# Altium integrated library Infineon RF & Wireless Control.IntLib: 329 symbols (part 1 of 11)
Pins are listed as number, name and electrical type; pins without a type are passive.

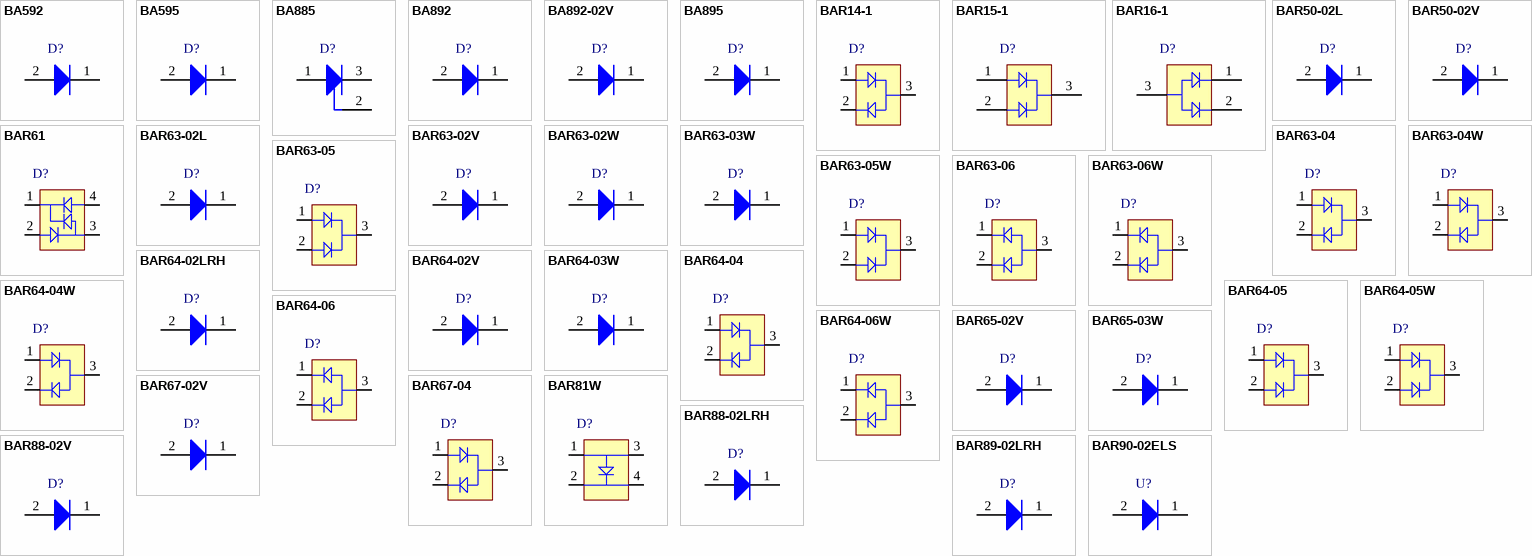
[diagram p0: symbols BA592 to BAR90-02ELS]

## BA592
designator D?
Single Silicon RF Switching Diode, 100 mA IF Max, 0.36 Ohm rF, SOD323, Green; Manufacturer: Infineon; PartNumber: BA592; CT (max): 1.4 pF; Green: yes; IF (max): 100 mA; Trr (typ): 120 ns; DatasheetVersion: Jul-2011; PackageReference: SOD323; PackageDescription: 2-Pin Small Outline Diode Package, 1.25 x 1.7 mm Body; Supplier 1: Mouser; Supplier Part Number 1: N/A; Supplier 2: Farnell; Supplier Part Number 2: 1095636RL; Configuration: Single; rF (typ): 0.36 Ohm; Mounting Technology: Surface Mount; ComponentLink1Description: Manufacturer URL; ComponentLink1URL: http://www.infineon.com/; ComponentLink2Description: Datasheet; ComponentLink2URL: http://www.infineon.com/dgdl/ba592_ba892series.pdf?folderId=db3a304314dca3890114fde87a7a09ec&fileId=db3a304314dca3890114fde8f46109ed; ComponentLink3Description: Package Specification; ComponentLink3URL: http://www.infineon.com/dgdl/SOD323-Package_Overview.pdf?folderId=db3a30431936bc4b011952aab84f3bbe&fileId=db3a30431936bc4b011952beed653be3
footprint INF-SOD323_V (SOD, 2-Leads, Body 1.7x1.25 mm)
pins: 1 K, 2 A

## BA595
designator D?
Single Silicon PIN Diode, 50 mA IF Max, 4.5 Ohm rF, SOD323, Green; Manufacturer: Infineon; PartNumber: BA595; CT (max): 0.6 pF; Green: yes; IF (max): 50 mA; rF (typ): 4.5 Ohm; Trr (typ): 1,600 ns; DatasheetVersion: Jul-2011; PackageReference: SOD323; PackageDescription: 2-Pin Small Outline Diode Package, 1.25 x 1.7 mm Body; Supplier 1: Mouser; Supplier Part Number 1: N/A; Supplier 2: Farnell; Supplier Part Number 2: 1095637; Supplier 3: Farnell; Supplier Part Number 3: 1095637RL; Configuration: Single; Mounting Technology: Surface Mount; ComponentLink1Description: Manufacturer URL; ComponentLink1URL: http://www.infineon.com/; ComponentLink2Description: Datasheet; ComponentLink2URL: http://www.infineon.com/dgdl/ba595_ba885_ba895series.pdf?folderId=db3a304314dca3890114fde87a7a09ec&fileId=db3a304314dca3890114fdf44fbb09fe&location=en.Products.RF.RF_PIN_Diodes.Band_Switching_and_RF_Attenuation.DATASHEET.ba595_ba885_ba895series.pdf; ComponentLink3Description: Package Specification; ComponentLink3URL: http://www.infineon.com/dgdl/SOD323-Package_Overview.pdf?folderId=db3a30431936bc4b011952aab84f3bbe&fileId=db3a30431936bc4b011952beed653be3
footprint INF-SOD323_V (SOD, 2-Leads, Body 1.7x1.25 mm)
pins: 1 K, 2 A

## BA885
designator D?
Single Silicon PIN Diode, 50 mA IF Max, 4.5 Ohm rF, SOT23, Green; Manufacturer: Infineon; PartNumber: BA885; CT (max): 0.6 pF; Green: yes; IF (max): 50 mA; rF (typ): 4.5 Ohm; Trr (typ): 1,600 ns; DatasheetVersion: Jul-2011; PackageReference: SOT23; PackageDescription: 3-Pin Small Outline Transistor Package, 1.3 x 2.9 mm Body, 0.95 mm Pitch; Supplier 1: Mouser; Supplier Part Number 1: N/A; Configuration: Single; Mounting Technology: Surface Mount; ComponentLink1Description: Manufacturer URL; ComponentLink1URL: http://www.infineon.com/; ComponentLink2Description: Datasheet; ComponentLink2URL: http://www.infineon.com/dgdl/ba595_ba885_ba895series.pdf?folderId=db3a304314dca3890114fde87a7a09ec&fileId=db3a304314dca3890114fdf44fbb09fe&location=en.Products.RF.RF_PIN_Diodes.Band_Switching_and_RF_Attenuation.DATASHEET.ba595_ba885_ba895series.pdf; ComponentLink3Description: Package Specification; ComponentLink3URL: http://www.infineon.com/dgdl/SOT23-Package_Overview.pdf?folderId=db3a30431936bc4b0119532290053c66&fileId=db3a30431936bc4b0119533468123c85
footprint INF-SOT23_N (SOT23, 3-Leads, Body 2.9x1.3 mm, Pitch 0.95 mm, IPC Medium Density)
footprint INF-SOT23_L (SOT23, 3-Leads, Body 2.9x1.3 mm, Pitch 0.95 mm, IPC High Density)
footprint INF-SOT23_M (SOT23, 3-Leads, Body 2.9x1.3 mm, Pitch 0.95 mm, IPC Low Density)
pins: 1 A, 2 NC, 3 K

## BA892
designator D?
Single Silicon RF Switching Diode, 100 mA IF Max, 0.36 Ohm rF, SCD80, Green; Manufacturer: Infineon; PartNumber: BA892; CT (max): 1.4 pF; Green: yes; IF (max): 100 mA; Trr (typ): 120 ns; DatasheetVersion: Jul-2011; PackageReference: SCD80; PackageDescription: 2-Pin Semiconductor Diode Package, 0.8 x 1.3 mm Body; Supplier 1: Mouser; Supplier Part Number 1: N/A; Configuration: Single; Halogen-free: yes; rF (typ): 0.36 Ohm; Mounting Technology: Surface Mount; ComponentLink1Description: Manufacturer URL; ComponentLink1URL: http://www.infineon.com/; ComponentLink2Description: Datasheet; ComponentLink2URL: http://www.infineon.com/dgdl/ba592_ba892series.pdf?folderId=db3a304314dca3890114fde87a7a09ec&fileId=db3a304314dca3890114fde8f46109ed&location=en.Products.RF.RF_PIN_Diodes.Band_Switching_and_RF_Attenuation.DATASHEET.ba592_ba892series.pdf; ComponentLink3Description: Package Specification; ComponentLink3URL: http://www.infineon.com/dgdl/SCD80-Package_Overview.pdf?folderId=db3a30431936bc4b0119526bd5c83b5c&fileId=db3a30431936bc4b0119528065a43b7a
footprint INF-SCD80_V (SCD80, 2-Leads, Body 0.8x1.3 mm)
pins: 1 K, 2 A

## BA892-02V
designator D?
Single Silicon RF Switching Diode, 100 mA IF Max, 0.36 Ohm rF, SC79, Green; Manufacturer: Infineon; PartNumber: BA892-02V; CT (max): 1.4 pF; Green: yes; IF (max): 100 mA; Trr (typ): 120 ns; DatasheetVersion: Jul-2011; PackageReference: SC79; PackageDescription: 2-Pin Semiconductor Package, 0.8 x 1.2 mm Body; Supplier 1: Mouser; Supplier Part Number 1: N/A; Supplier 2: Farnell; Supplier Part Number 2: 1095639RL; Configuration: Single; Halogen-free: yes; rF (typ): 0.36 Ohm; Mounting Technology: Surface Mount; ComponentLink1Description: Manufacturer URL; ComponentLink1URL: http://www.infineon.com/; ComponentLink2Description: Datasheet; ComponentLink2URL: http://www.infineon.com/dgdl/ba592_ba892series.pdf?folderId=db3a304314dca3890114fde87a7a09ec&fileId=db3a304314dca3890114fde8f46109ed&location=en.Products.RF.RF_PIN_Diodes.Band_Switching_and_RF_Attenuation.DATASHEET.ba592_ba892series.pdf; ComponentLink3Description: Package Specification; ComponentLink3URL: http://www.infineon.com/dgdl/SC79-Package_Overview.pdf?folderId=db3a30431936bc4b011951fbddb03b15&fileId=db3a30431936bc4b01195226fe583b41
footprint INF-SC79_V (SC79, 2-Leads, Body 1.2x0.8 mm)
pins: 1 K, 2 A

## BA895
designator D?
Single Silicon PIN Diode, 50 mA IF Max, 4.5 Ohm rF, SCD80, Green; Manufacturer: Infineon; PartNumber: BA895; CT (max): 0.6 pF; Green: yes; IF (max): 50 mA; rF (typ): 4.5 Ohm; Trr (typ): 1,600 ns; DatasheetVersion: Jul-2011; PackageReference: SCD80; PackageDescription: 2-Pin Semiconductor Diode Package, 0.8 x 1.3 mm Body; Supplier 1: Mouser; Supplier Part Number 1: N/A; Configuration: Single; Halogen-free: yes; Mounting Technology: Surface Mount; ComponentLink1Description: Manufacturer URL; ComponentLink1URL: http://www.infineon.com/; ComponentLink2Description: Datasheet; ComponentLink2URL: http://www.infineon.com/dgdl/ba595_ba885_ba895series.pdf?folderId=db3a304314dca3890114fde87a7a09ec&fileId=db3a304314dca3890114fdf44fbb09fe&location=en.Products.RF.RF_PIN_Diodes.Band_Switching_and_RF_Attenuation.DATASHEET.ba595_ba885_ba895series.pdf; ComponentLink3Description: Package Specification; ComponentLink3URL: http://www.infineon.com/dgdl/SCD80-Package_Overview.pdf?folderId=db3a30431936bc4b0119526bd5c83b5c&fileId=db3a30431936bc4b0119528065a43b7a
footprint INF-SCD80_V (SCD80, 2-Leads, Body 0.8x1.3 mm)
pins: 1 K, 2 A

## BAR14-1
designator D?
Dual Silicon PIN Diode, 140 mA IF Max, 7 Ohm rF, SOT23, Green; Manufacturer: Infineon; PartNumber: BAR14-1; CT (max): 0.5 pF; Green: yes; IF (max): 140 mA; rF (typ): 7 Ohm; Trr (typ): 1,000 ns; DatasheetVersion: Apr-2007; PackageReference: SOT23; PackageDescription: 3-Pin Small Outline Transistor Package, 1.3 x 2.9 mm Body, 0.95 mm Pitch; Supplier 1: Mouser; Supplier Part Number 1: N/A; Supplier 2: Newark; Supplier Part Number 2: 96K6732; Supplier 3: Farnell; Supplier Part Number 3: 1095642RL; Supplier 4: Farnell; Supplier Part Number 4: 1095642; Configuration: Dual; Mounting Technology: Surface Mount; ComponentLink1Description: Manufacturer URL; ComponentLink1URL: http://www.infineon.com/; ComponentLink2Description: Datasheet; ComponentLink2URL: http://www.infineon.com/dgdl/bar14_bar15_bar16_bar61series.pdf?folderId=db3a304314dca3890114fde87a7a09ec&fileId=db3a304314dca3890114fe4104c70a88&location=en.Products.RF.RF_PIN_Diodes.Band_Switching_and_RF_Attenuation.DATASHEET.bar14_bar15_bar16_bar61series.pdf; ComponentLink3Description: Package Specification; ComponentLink3URL: http://www.infineon.com/dgdl/SOT23-Package_Overview.pdf?folderId=db3a30431936bc4b0119532290053c66&fileId=db3a30431936bc4b0119533468123c85
footprint INF-SOT23_N (SOT23, 3-Leads, Body 2.9x1.3 mm, Pitch 0.95 mm, IPC Medium Density)
footprint INF-SOT23_L (SOT23, 3-Leads, Body 2.9x1.3 mm, Pitch 0.95 mm, IPC High Density)
footprint INF-SOT23_M (SOT23, 3-Leads, Body 2.9x1.3 mm, Pitch 0.95 mm, IPC Low Density)
pins: 1 A1, 2 K2, 3 C

## BAR15-1
designator D?
Dual Silicon PIN Diode, 140 mA IF Max, 7 Ohm rF, SOT23, Green; Manufacturer: Infineon; PartNumber: BAR15-1; CT (max): 0.5 pF; Green: yes; IF (max): 140 mA; rF (typ): 7 Ohm; Trr (typ): 1,000 ns; DatasheetVersion: Apr-2007; PackageReference: SOT23; PackageDescription: 3-Pin Small Outline Transistor Package, 1.3 x 2.9 mm Body, 0.95 mm Pitch; Supplier 1: Newark; Supplier Part Number 1: 96K6733; Supplier 2: Farnell; Supplier Part Number 2: 1095643; Supplier 3: Farnell; Supplier Part Number 3: 1095643RL; Configuration: Dual; Mounting Technology: Surface Mount; ComponentLink1Description: Manufacturer URL; ComponentLink1URL: http://www.infineon.com/; ComponentLink2Description: Datasheet; ComponentLink2URL: http://www.infineon.com/dgdl/bar14_bar15_bar16_bar61series.pdf?folderId=db3a304314dca3890114fde87a7a09ec&fileId=db3a304314dca3890114fe4104c70a88&location=en.Products.RF.RF_PIN_Diodes.Band_Switching_and_RF_Attenuation.DATASHEET.bar14_bar15_bar16_bar61series.pdf; ComponentLink3Description: Package Specification; ComponentLink3URL: http://www.infineon.com/dgdl/SOT23-Package_Overview.pdf?folderId=db3a30431936bc4b0119532290053c66&fileId=db3a30431936bc4b0119533468123c85
footprint INF-SOT23_N (SOT23, 3-Leads, Body 2.9x1.3 mm, Pitch 0.95 mm, IPC Medium Density)
footprint INF-SOT23_L (SOT23, 3-Leads, Body 2.9x1.3 mm, Pitch 0.95 mm, IPC High Density)
footprint INF-SOT23_M (SOT23, 3-Leads, Body 2.9x1.3 mm, Pitch 0.95 mm, IPC Low Density)
pins: 1 A1, 2 A2, 3 K

## BAR16-1
designator D?
Dual Silicon PIN Diode, 140 mA IF Max, 7 Ohm rF, SOT23, Green; Manufacturer: Infineon; PartNumber: BAR16-1; CT (max): 0.5 pF; Green: yes; IF (max): 140 mA; rF (typ): 7 Ohm; Trr (typ): 1,000 ns; DatasheetVersion: Apr-2007; PackageReference: SOT23; PackageDescription: 3-Pin Small Outline Transistor Package, 1.3 x 2.9 mm Body, 0.95 mm Pitch; Supplier 1: Mouser; Supplier Part Number 1: N/A; Supplier 2: Farnell; Supplier Part Number 2: 1095644; Supplier 3: Farnell; Supplier Part Number 3: 1095644RL; Configuration: Dual; Mounting Technology: Surface Mount; ComponentLink1Description: Manufacturer URL; ComponentLink1URL: http://www.infineon.com/; ComponentLink2Description: Datasheet; ComponentLink2URL: http://www.infineon.com/dgdl/bar14_bar15_bar16_bar61series.pdf?folderId=db3a304314dca3890114fde87a7a09ec&fileId=db3a304314dca3890114fe4104c70a88&location=en.Products.RF.RF_PIN_Diodes.Band_Switching_and_RF_Attenuation.DATASHEET.bar14_bar15_bar16_bar61series.pdf; ComponentLink3Description: Package Specification; ComponentLink3URL: http://www.infineon.com/dgdl/SOT23-Package_Overview.pdf?folderId=db3a30431936bc4b0119532290053c66&fileId=db3a30431936bc4b0119533468123c85
footprint INF-SOT23_N (SOT23, 3-Leads, Body 2.9x1.3 mm, Pitch 0.95 mm, IPC Medium Density)
footprint INF-SOT23_L (SOT23, 3-Leads, Body 2.9x1.3 mm, Pitch 0.95 mm, IPC High Density)
footprint INF-SOT23_M (SOT23, 3-Leads, Body 2.9x1.3 mm, Pitch 0.95 mm, IPC Low Density)
pins: 1 K1, 2 K2, 3 A

## BAR50-02L
designator D?
Silicon PIN Diode, TSLP-2-1, Green; Manufacturer: Infineon; PartNumber: BAR50-02L; Green: TRUE; PackageReference: TSLP-2-1; PackageDescription: 2-Pin Thin Small Leadless Package, 0.6 x 1 mm Body; Supplier 1: Mouser; Supplier Part Number 1: N/A; Halogen-free: TRUE; Mounting Technology: Surface Mount; ComponentLink1Description: Manufacturer URL; ComponentLink1URL: http://www.infineon.com/; ComponentLink2Description: Datasheet; ComponentLink2URL: http://www.infineon.com/dgdl/bar50series.pdf?folderId=db3a304314dca3890114fea780a30a91&fileId=db3a304314dca3890114fea7dd410a92&location=en.Products.RF.RF_PIN_Diodes.Antenna_Switch.DATASHEET.bar50series.pdf; ComponentLink3Description: Package Specification; ComponentLink3URL: http://www.infineon.com/dgdl/TSLP-2-1-Package_Overview.pdf?folderId=db3a30431936bc4b011956a23bb2377c&fileId=db3a30431936bc4b011956b3e8c13795
footprint INF-TSLP-2-1_N (Chip2PinSM, 2-Leads, Body 1x0.6 mm, Pitch 0.65 mm, IPC Medium Density)
footprint INF-TSLP-2-1_L (Chip2PinSM, 2-Leads, Body 1x0.6 mm, Pitch 0.65 mm, IPC High Density)
footprint INF-TSLP-2-1_M (Chip2PinSM, 2-Leads, Body 1x0.6 mm, Pitch 0.65 mm, IPC Low Density)
pins: 1 K, 2 A

## BAR50-02V
designator D?
Single Silicon PIN Diode, 100 mA IF Max, 3 Ohm rF, SC79, Green; Manufacturer: Infineon; PartNumber: BAR50-02V; CT (max): 0.5 pF; Green: yes; IF (max): 100 mA; rF (typ): 3 Ohm; Trr (typ): 1,100 ns; DatasheetVersion: Jul-2011; PackageReference: SC79; PackageDescription: 2-Pin Semiconductor Package, 0.8 x 1.2 mm Body; Supplier 1: Mouser; Supplier Part Number 1: N/A; Supplier 2: Newark; Supplier Part Number 2: 96K6735; Supplier 3: Farnell; Supplier Part Number 3: 1095645RL; Supplier 4: Farnell; Supplier Part Number 4: 1095645; Configuration: Single; Halogen-free: yes; Mounting Technology: Surface Mount; ComponentLink1Description: Manufacturer URL; ComponentLink1URL: http://www.infineon.com/; ComponentLink2Description: Datasheet; ComponentLink2URL: http://www.infineon.com/dgdl/bar50series.pdf?folderId=db3a304314dca3890114fea780a30a91&fileId=db3a304314dca3890114fea7dd410a92&location=en.Products.RF.RF_PIN_Diodes.Antenna_Switch.DATASHEET.bar50series.pdf; ComponentLink3Description: Package Specification; ComponentLink3URL: http://www.infineon.com/dgdl/SC79-Package_Overview.pdf?folderId=db3a30431936bc4b011951fbddb03b15&fileId=db3a30431936bc4b01195226fe583b41
footprint INF-SC79_V (SC79, 2-Leads, Body 1.2x0.8 mm)
pins: 1 K, 2 A

## BAR61
designator D?
Single Silicon PIN Diode, 140 mA IF Max, 7 Ohm rF, SOT143-4-1, Green; Manufacturer: Infineon; PartNumber: BAR61; CT (max): 0.5 pF; Green: yes; IF (max): 140 mA; rF (typ): 7 Ohm; Trr (typ): 1,000 ns; DatasheetVersion: Apr-2007; PackageReference: SOT143-4-1; PackageDescription: 4-Pin Small Outline Transistor Package, 1.3 x 2.9 mm Body; Supplier 1: Mouser; Supplier Part Number 1: N/A; Configuration: Single; Mounting Technology: Surface Mount; ComponentLink1Description: Manufacturer URL; ComponentLink1URL: http://www.infineon.com/; ComponentLink2Description: Datasheet; ComponentLink2URL: http://www.infineon.com/dgdl/bar14_bar15_bar16_bar61series.pdf?folderId=db3a304314dca3890114fde87a7a09ec&fileId=db3a304314dca3890114fe4104c70a88&location=en.Products.RF.RF_PIN_Diodes.Band_Switching_and_RF_Attenuation.DATASHEET.bar14_bar15_bar16_bar61series.pdf; ComponentLink3Description: Package Specification; ComponentLink3URL: http://www.infineon.com/dgdl/SOT143-Package_Overview.pdf?folderId=db3a30431936bc4b011952ce8b1b3bed&fileId=db3a30431936bc4b011952df42203c0c
footprint INF-SOT143-4-1_V (SOT143, 4-Leads, Body 2.9x1.3 mm)
pins: 1 K, 2 A3, 3 C, 4 A1

## BAR63-02L
designator D?
Single Silicon PIN Diode, 100 mA IF Max, 1 Ohm rF, TSLP-2-1, Green; Manufacturer: Infineon; PartNumber: BAR63-02L; CT (max): 0.3 pF; Green: yes; IF (max): 100 mA; rF (typ): 1.0 Ohm; Trr (typ): 75 ns; DatasheetVersion: Jul-2011; PackageReference: TSLP-2-1; PackageDescription: 2-Pin Thin Small Leadless Package, 0.6 x 1 mm Body; Supplier 1: Mouser; Supplier Part Number 1: N/A; Configuration: Single; Halogen-free: yes; Mounting Technology: Surface Mount; ComponentLink1Description: Manufacturer URL; ComponentLink1URL: http://www.infineon.com/; ComponentLink2Description: Datasheet; ComponentLink2URL: http://www.infineon.com/dgdl/bar63series.pdf?folderId=db3a304314dca3890114fea780a30a91&fileId=db3a304314dca3890114fead23dc0a93&location=en.Products.RF.RF_PIN_Diodes.Antenna_Switch.DATASHEET.bar63series.pdf; ComponentLink3Description: Package Specification; ComponentLink3URL: http://www.infineon.com/dgdl/TSLP-2-1-Package_Overview.pdf?folderId=db3a30431936bc4b011956a23bb2377c&fileId=db3a30431936bc4b011956b3e8c13795
footprint INF-TSLP-2-1_N (Chip2PinSM, 2-Leads, Body 1x0.6 mm, Pitch 0.65 mm, IPC Medium Density)
footprint INF-TSLP-2-1_L (Chip2PinSM, 2-Leads, Body 1x0.6 mm, Pitch 0.65 mm, IPC High Density)
footprint INF-TSLP-2-1_M (Chip2PinSM, 2-Leads, Body 1x0.6 mm, Pitch 0.65 mm, IPC Low Density)
pins: 1 K, 2 A

## BAR63-02V
designator D?
Single Silicon PIN Diode, 100 mA IF Max, 1 Ohm rF, SC79, Green; Manufacturer: Infineon; PartNumber: BAR63-02V; CT (max): 0.3 pF; Green: yes; IF (max): 100 mA; rF (typ): 1.0 Ohm; Trr (typ): 75 ns; DatasheetVersion: Jul-2011; PackageReference: SC79; PackageDescription: 2-Pin Semiconductor Package, 0.8 x 1.2 mm Body; Supplier 1: Mouser; Supplier Part Number 1: N/A; Supplier 2: Farnell; Supplier Part Number 2: 1095647RL; Configuration: Single; Halogen-free: yes; Mounting Technology: Surface Mount; ComponentLink1Description: Manufacturer URL; ComponentLink1URL: http://www.infineon.com/; ComponentLink2Description: Datasheet; ComponentLink2URL: http://www.infineon.com/dgdl/bar63series.pdf?folderId=db3a304314dca3890114fea780a30a91&fileId=db3a304314dca3890114fead23dc0a93&location=en.Products.RF.RF_PIN_Diodes.Antenna_Switch.DATASHEET.bar63series.pdf; ComponentLink3Description: Package Specification; ComponentLink3URL: http://www.infineon.com/dgdl/SC79-Package_Overview.pdf?folderId=db3a30431936bc4b011951fbddb03b15&fileId=db3a30431936bc4b01195226fe583b41
footprint INF-SC79_V (SC79, 2-Leads, Body 1.2x0.8 mm)
pins: 1 K, 2 A

## BAR63-02W
designator D?
Single Silicon PIN Diode, 100 mA IF Max, 1 Ohm rF, SCD80, Green; Manufacturer: Infineon; PartNumber: BAR63-02W; CT (max): 0.3 pF; Green: yes; IF (max): 100 mA; rF (typ): 1 Ohm; Trr (typ): 75 ns; DatasheetVersion: Jul-2011; PackageReference: SCD80; PackageDescription: 2-Pin Semiconductor Diode Package, 0.8 x 1.3 mm Body; Supplier 1: Mouser; Supplier Part Number 1: N/A; Configuration: Single; Halogen-free: yes; Mounting Technology: Surface Mount; ComponentLink1Description: Manufacturer URL; ComponentLink1URL: http://www.infineon.com/; ComponentLink2Description: Datasheet; ComponentLink2URL: http://www.infineon.com/dgdl/bar63series.pdf?folderId=db3a304314dca3890114fea780a30a91&fileId=db3a304314dca3890114fead23dc0a93&location=en.Products.RF.RF_PIN_Diodes.Antenna_Switch.DATASHEET.bar63series.pdf; ComponentLink3Description: Package Specification; ComponentLink3URL: http://www.infineon.com/dgdl/SCD80-Package_Overview.pdf?folderId=db3a30431936bc4b0119526bd5c83b5c&fileId=db3a30431936bc4b0119528065a43b7a
footprint INF-SCD80_V (SCD80, 2-Leads, Body 0.8x1.3 mm)
pins: 1 K, 2 A

## BAR63-03W
designator D?
Single Silicon PIN Diode, 100 mA IF Max, 1 Ohm rF, SOD323, Green; Manufacturer: Infineon; PartNumber: BAR63-03W; CT (max): 0.3 pF; Green: yes; IF (max): 100 mA; rF (typ): 1 Ohm; Trr (typ): 75 ns; DatasheetVersion: Jul-2011; PackageReference: SOD323; PackageDescription: 2-Pin Small Outline Diode Package, 1.25 x 1.7 mm Body; Supplier 1: Mouser; Supplier Part Number 1: N/A; Configuration: Single; Mounting Technology: Surface Mount; ComponentLink1Description: Manufacturer URL; ComponentLink1URL: http://www.infineon.com/; ComponentLink2Description: Datasheet; ComponentLink2URL: http://www.infineon.com/dgdl/bar63series.pdf?folderId=db3a304314dca3890114fea780a30a91&fileId=db3a304314dca3890114fead23dc0a93&location=en.Products.RF.RF_PIN_Diodes.Antenna_Switch.DATASHEET.bar63series.pdf; ComponentLink3Description: Package Specification; ComponentLink3URL: http://www.infineon.com/dgdl/SOD323-Package_Overview.pdf?folderId=db3a30431936bc4b011952aab84f3bbe&fileId=db3a30431936bc4b011952beed653be3
footprint INF-SOD323_V (SOD, 2-Leads, Body 1.7x1.25 mm)
pins: 1 K, 2 A

## BAR63-04
designator D?
Dual Silicon PIN Diode, 100 mA IF Max, 1 Ohm rF, SOT23, Green; Manufacturer: Infineon; PartNumber: BAR63-04; CT (max): 0.3 pF; Green: yes; IF (max): 100 mA; rF (typ): 1 Ohm; Trr (typ): 75 ns; DatasheetVersion: Jul-2011; PackageReference: SOT23; PackageDescription: 3-Pin Small Outline Transistor Package, 1.3 x 2.9 mm Body, 0.95 mm Pitch; Supplier 1: Mouser; Supplier Part Number 1: N/A; Configuration: Dual; Mounting Technology: Surface Mount; ComponentLink1Description: Manufacturer URL; ComponentLink1URL: http://www.infineon.com/; ComponentLink2Description: Datasheet; ComponentLink2URL: http://www.infineon.com/dgdl/bar63series.pdf?folderId=db3a304314dca3890114fea780a30a91&fileId=db3a304314dca3890114fead23dc0a93&location=en.Products.RF.RF_PIN_Diodes.Antenna_Switch.DATASHEET.bar63series.pdf; ComponentLink3Description: Package Specification; ComponentLink3URL: http://www.infineon.com/dgdl/SOT23-Package_Overview.pdf?folderId=db3a30431936bc4b0119532290053c66&fileId=db3a30431936bc4b0119533468123c85
footprint INF-SOT23_N (SOT23, 3-Leads, Body 2.9x1.3 mm, Pitch 0.95 mm, IPC Medium Density)
footprint INF-SOT23_L (SOT23, 3-Leads, Body 2.9x1.3 mm, Pitch 0.95 mm, IPC High Density)
footprint INF-SOT23_M (SOT23, 3-Leads, Body 2.9x1.3 mm, Pitch 0.95 mm, IPC Low Density)
pins: 1 A1, 2 K2, 3 C

## BAR63-04W
designator D?
Dual Silicon PIN Diode, 100 mA IF Max, 1 Ohm rF, SOT323, Green; Manufacturer: Infineon; PartNumber: BAR63-04W; CT (max): 0.3 pF; Green: yes; IF (max): 100 mA; rF (typ): 1 Ohm; Trr (typ): 75 ns; DatasheetVersion: Jul-2011; PackageReference: SOT323; PackageDescription: 3-Pin Small Outline Transistor Package, 1.25 x 2 mm Body, 0.65 mm Pitch; Supplier 1: Mouser; Supplier Part Number 1: N/A; Configuration: Dual; Halogen-free: yes; Mounting Technology: Surface Mount; ComponentLink1Description: Manufacturer URL; ComponentLink1URL: http://www.infineon.com/; ComponentLink2Description: Datasheet; ComponentLink2URL: http://www.infineon.com/dgdl/bar63series.pdf?folderId=db3a304314dca3890114fea780a30a91&fileId=db3a304314dca3890114fead23dc0a93&location=en.Products.RF.RF_PIN_Diodes.Antenna_Switch.DATASHEET.bar63series.pdf; ComponentLink3Description: Package Specification; ComponentLink3URL: http://www.infineon.com/dgdl/SOT323-Package_Overview.pdf?folderId=db3a30431936bc4b0119533e1dcb3c92&fileId=db3a30431936bc4b011953495f283cb1
footprint INF-SOT323_N (SOT23, 3-Leads, Body 2x1.25 mm, Pitch 0.65 mm, IPC Medium Density)
footprint INF-SOT323_L (SOT23, 3-Leads, Body 2x1.25 mm, Pitch 0.65 mm, IPC High Density)
footprint INF-SOT323_M (SOT23, 3-Leads, Body 2x1.25 mm, Pitch 0.65 mm, IPC Low Density)
pins: 1 A1, 2 K2, 3 C

## BAR63-05
designator D?
Dual Silicon PIN Diode, 100 mA IF Max, 1 Ohm rF, SOT23, Green; Manufacturer: Infineon; PartNumber: BAR63-05; CT (max): 0.3 pF; Green: yes; IF (max): 100 mA; rF (typ): 1 Ohm; Trr (typ): 75 ns; DatasheetVersion: Jul-2011; PackageReference: SOT23; PackageDescription: 3-Pin Small Outline Transistor Package, 1.3 x 2.9 mm Body, 0.95 mm Pitch; Supplier 1: Mouser; Supplier Part Number 1: N/A; Configuration: Dual; Mounting Technology: Surface Mount; ComponentLink1Description: Manufacturer URL; ComponentLink1URL: http://www.infineon.com/; ComponentLink2Description: Datasheet; ComponentLink2URL: http://www.infineon.com/dgdl/bar63series.pdf?folderId=db3a304314dca3890114fea780a30a91&fileId=db3a304314dca3890114fead23dc0a93&location=en.Products.RF.RF_PIN_Diodes.Antenna_Switch.DATASHEET.bar63series.pdf; ComponentLink3Description: Package Specification; ComponentLink3URL: http://www.infineon.com/dgdl/SOT23-Package_Overview.pdf?folderId=db3a30431936bc4b0119532290053c66&fileId=db3a30431936bc4b0119533468123c85
footprint INF-SOT23_N (SOT23, 3-Leads, Body 2.9x1.3 mm, Pitch 0.95 mm, IPC Medium Density)
footprint INF-SOT23_L (SOT23, 3-Leads, Body 2.9x1.3 mm, Pitch 0.95 mm, IPC High Density)
footprint INF-SOT23_M (SOT23, 3-Leads, Body 2.9x1.3 mm, Pitch 0.95 mm, IPC Low Density)
pins: 1 A1, 2 A2, 3 K

## BAR63-05W
designator D?
Dual Silicon PIN Diode, 100 mA IF Max, 1 Ohm rF, SOT323, Green; Manufacturer: Infineon; PartNumber: BAR63-05W; CT (max): 0.3 pF; Green: yes; IF (max): 100 mA; rF (typ): 1 Ohm; Trr (typ): 75 ns; DatasheetVersion: Jul-2011; PackageReference: SOT323; PackageDescription: 3-Pin Small Outline Transistor Package, 1.25 x 2 mm Body, 0.65 mm Pitch; Supplier 1: Mouser; Supplier Part Number 1: N/A; Configuration: Dual; Halogen-free: yes; Mounting Technology: Surface Mount; ComponentLink1Description: Manufacturer URL; ComponentLink1URL: http://www.infineon.com/; ComponentLink2Description: Datasheet; ComponentLink2URL: http://www.infineon.com/dgdl/bar63series.pdf?folderId=db3a304314dca3890114fea780a30a91&fileId=db3a304314dca3890114fead23dc0a93&location=en.Products.RF.RF_PIN_Diodes.Antenna_Switch.DATASHEET.bar63series.pdf; ComponentLink3Description: Package Specification; ComponentLink3URL: http://www.infineon.com/dgdl/SOT323-Package_Overview.pdf?folderId=db3a30431936bc4b0119533e1dcb3c92&fileId=db3a30431936bc4b011953495f283cb1
footprint INF-SOT323_N (SOT23, 3-Leads, Body 2x1.25 mm, Pitch 0.65 mm, IPC Medium Density)
footprint INF-SOT323_L (SOT23, 3-Leads, Body 2x1.25 mm, Pitch 0.65 mm, IPC High Density)
footprint INF-SOT323_M (SOT23, 3-Leads, Body 2x1.25 mm, Pitch 0.65 mm, IPC Low Density)
pins: 1 A1, 2 A2, 3 K

## BAR63-06
designator D?
Dual Silicon PIN Diode, 100 mA IF Max, 1 Ohm rF, SOT23, Green; Manufacturer: Infineon; PartNumber: BAR63-06; CT (max): 0.3 pF; Green: yes; IF (max): 100 mA; rF (typ): 1 Ohm; Trr (typ): 75 ns; DatasheetVersion: Jul-2011; PackageReference: SOT23; PackageDescription: 3-Pin Small Outline Transistor Package, 1.3 x 2.9 mm Body, 0.95 mm Pitch; Supplier 1: Mouser; Supplier Part Number 1: N/A; Configuration: Dual; Mounting Technology: Surface Mount; ComponentLink1Description: Manufacturer URL; ComponentLink1URL: http://www.infineon.com/; ComponentLink2Description: Datasheet; ComponentLink2URL: http://www.infineon.com/dgdl/bar63series.pdf?folderId=db3a304314dca3890114fea780a30a91&fileId=db3a304314dca3890114fead23dc0a93&location=en.Products.RF.RF_PIN_Diodes.Antenna_Switch.DATASHEET.bar63series.pdf; ComponentLink3Description: Package Specification; ComponentLink3URL: http://www.infineon.com/dgdl/SOT23-Package_Overview.pdf?folderId=db3a30431936bc4b0119532290053c66&fileId=db3a30431936bc4b0119533468123c85
footprint INF-SOT23_N (SOT23, 3-Leads, Body 2.9x1.3 mm, Pitch 0.95 mm, IPC Medium Density)
footprint INF-SOT23_L (SOT23, 3-Leads, Body 2.9x1.3 mm, Pitch 0.95 mm, IPC High Density)
footprint INF-SOT23_M (SOT23, 3-Leads, Body 2.9x1.3 mm, Pitch 0.95 mm, IPC Low Density)
pins: 1 K1, 2 K2, 3 A

## BAR63-06W
designator D?
Dual Silicon PIN Diode, 100 mA IF Max, 1 Ohm rF, SOT323, Green; Manufacturer: Infineon; PartNumber: BAR63-06W; CT (max): 0.3 pF; Green: yes; IF (max): 100 mA; rF (typ): 1 Ohm; Trr (typ): 75 ns; DatasheetVersion: Jul-2011; PackageReference: SOT323; PackageDescription: 3-Pin Small Outline Transistor Package, 1.25 x 2 mm Body, 0.65 mm Pitch; Supplier 1: Mouser; Supplier Part Number 1: N/A; Configuration: Dual; Halogen-free: yes; Mounting Technology: Surface Mount; ComponentLink1Description: Manufacturer URL; ComponentLink1URL: http://www.infineon.com/; ComponentLink2Description: Datasheet; ComponentLink2URL: http://www.infineon.com/dgdl/bar63series.pdf?folderId=db3a304314dca3890114fea780a30a91&fileId=db3a304314dca3890114fead23dc0a93&location=en.Products.RF.RF_PIN_Diodes.Antenna_Switch.DATASHEET.bar63series.pdf; ComponentLink3Description: Package Specification; ComponentLink3URL: http://www.infineon.com/dgdl/SOT323-Package_Overview.pdf?folderId=db3a30431936bc4b0119533e1dcb3c92&fileId=db3a30431936bc4b011953495f283cb1
footprint INF-SOT323_N (SOT23, 3-Leads, Body 2x1.25 mm, Pitch 0.65 mm, IPC Medium Density)
footprint INF-SOT323_L (SOT23, 3-Leads, Body 2x1.25 mm, Pitch 0.65 mm, IPC High Density)
footprint INF-SOT323_M (SOT23, 3-Leads, Body 2x1.25 mm, Pitch 0.65 mm, IPC Low Density)
pins: 1 K1, 2 K2, 3 A

## BAR64-02LRH
designator D?
Single Silicon PIN Diode, 100 mA IF Max, 2.1 Ohm rF, TSLP-2-7, Green; Manufacturer: Infineon; PartNumber: BAR64-02LRH; CT (max): 0.35 pF; Green: yes; IF (max): 100 mA; rF (typ): 2.1 Ohm; Trr (typ): 1,550 ns; DatasheetVersion: Jul-2011; PackageReference: TSLP-2-7; PackageDescription: 2-Pin Thin Small Leadless Package, 0.6 x 1 mm Body; Supplier 1: Mouser; Supplier Part Number 1: N/A; Configuration: Single; Halogen-free: yes; Mounting Technology: Surface Mount; ComponentLink1Description: Manufacturer URL; ComponentLink1URL: http://www.infineon.com/; ComponentLink2Description: Datasheet; ComponentLink2URL: http://www.infineon.com/dgdl/bar64series.pdf?folderId=db3a304314dca3890114fea780a30a91&fileId=db3a304314dca3890114fef8f4ca0aca&location=en.Products.RF.RF_PIN_Diodes.Antenna_Switch.DATASHEET.bar64series.pdf; ComponentLink3Description: Package Specification; ComponentLink3URL: http://www.infineon.com/dgdl/TSLP-2-7%2C-17-Package_Overview.pdf?folderId=db3a30431936bc4b011956dca02837a0&fileId=db3a30431936bc4b01195723a67f37c1
footprint INF-TSLP-2-7_N (Chip2PinSM, 2-Leads, Body 1x0.6 mm, Pitch 0.65 mm, IPC Medium Density)
footprint INF-TSLP-2-7_L (Chip2PinSM, 2-Leads, Body 1x0.6 mm, Pitch 0.65 mm, IPC High Density)
footprint INF-TSLP-2-7_M (Chip2PinSM, 2-Leads, Body 1x0.6 mm, Pitch 0.65 mm, IPC Low Density)
pins: 1 K, 2 A

## BAR64-02V
designator D?
Single Silicon PIN Diode, 100 mA IF Max, 2.1 Ohm rF, SC79, Green; Manufacturer: Infineon; PartNumber: BAR64-02V; CT (max): 0.35 pF; Green: yes; IF (max): 100 mA; rF (typ): 2.1 Ohm; Trr (typ): 1,550 ns; DatasheetVersion: Jul-2011; PackageReference: SC79; PackageDescription: 2-Pin Semiconductor Package, 0.8 x 1.2 mm Body; Supplier 1: Mouser; Supplier Part Number 1: N/A; Supplier 2: Farnell; Supplier Part Number 2: 1095648RL; Configuration: Single; Halogen-free: yes; Mounting Technology: Surface Mount; ComponentLink1Description: Manufacturer URL; ComponentLink1URL: http://www.infineon.com/; ComponentLink2Description: Datasheet; ComponentLink2URL: http://www.infineon.com/dgdl/bar64series.pdf?folderId=db3a304314dca3890114fea780a30a91&fileId=db3a304314dca3890114fef8f4ca0aca&location=en.Products.RF.RF_PIN_Diodes.Antenna_Switch.DATASHEET.bar64series.pdf; ComponentLink3Description: Package Specification; ComponentLink3URL: http://www.infineon.com/dgdl/SC79-Package_Overview.pdf?folderId=db3a30431936bc4b011951fbddb03b15&fileId=db3a30431936bc4b01195226fe583b41
footprint INF-SC79_V (SC79, 2-Leads, Body 1.2x0.8 mm)
pins: 1 K, 2 A

## BAR64-03W
designator D?
Single Silicon PIN Diode, 100 mA IF Max, 2.1 Ohm rF, SOD323, Green; Manufacturer: Infineon; PartNumber: BAR64-03W; CT (max): 0.35 pF; Green: yes; IF (max): 100 mA; rF (typ): 2.1 Ohm; Trr (typ): 1,550 ns; DatasheetVersion: Jul-2011; PackageReference: SOD323; PackageDescription: 2-Pin Small Outline Diode Package, 1.25 x 1.7 mm Body; Supplier 1: Mouser; Supplier Part Number 1: N/A; Configuration: Single; Mounting Technology: Surface Mount; ComponentLink1Description: Manufacturer URL; ComponentLink1URL: http://www.infineon.com/; ComponentLink2Description: Datasheet; ComponentLink2URL: http://www.infineon.com/dgdl/bar64series.pdf?folderId=db3a304314dca3890114fea780a30a91&fileId=db3a304314dca3890114fef8f4ca0aca&location=en.Products.RF.RF_PIN_Diodes.Antenna_Switch.DATASHEET.bar64series.pdf; ComponentLink3Description: Package Specification; ComponentLink3URL: http://www.infineon.com/dgdl/SOD323-Package_Overview.pdf?folderId=db3a30431936bc4b011952aab84f3bbe&fileId=db3a30431936bc4b011952beed653be3
footprint INF-SOD323_V (SOD, 2-Leads, Body 1.7x1.25 mm)
pins: 1 K, 2 A

## BAR64-04
designator D?
Dual Silicon PIN Diode, 100 mA IF Max, 2.1 Ohm rF, SOT23, Green; Manufacturer: Infineon; PartNumber: BAR64-04; CT (max): 0.35 pF; Green: yes; IF (max): 100 mA; rF (typ): 2.1 Ohm; Trr (typ): 1,550 ns; DatasheetVersion: Jul-2011; PackageReference: SOT23; PackageDescription: 3-Pin Small Outline Transistor Package, 1.3 x 2.9 mm Body, 0.95 mm Pitch; Supplier 1: Mouser; Supplier Part Number 1: N/A; Configuration: Dual; Mounting Technology: Surface Mount; ComponentLink1Description: Manufacturer URL; ComponentLink1URL: http://www.infineon.com/; ComponentLink2Description: Datasheet; ComponentLink2URL: http://www.infineon.com/dgdl/bar64series.pdf?folderId=db3a304314dca3890114fea780a30a91&fileId=db3a304314dca3890114fef8f4ca0aca&location=en.Products.RF.RF_PIN_Diodes.Antenna_Switch.DATASHEET.bar64series.pdf; ComponentLink3Description: Package Specification; ComponentLink3URL: http://www.infineon.com/dgdl/SOT23-Package_Overview.pdf?folderId=db3a30431936bc4b0119532290053c66&fileId=db3a30431936bc4b0119533468123c85
footprint INF-SOT23_N (SOT23, 3-Leads, Body 2.9x1.3 mm, Pitch 0.95 mm, IPC Medium Density)
footprint INF-SOT23_L (SOT23, 3-Leads, Body 2.9x1.3 mm, Pitch 0.95 mm, IPC High Density)
footprint INF-SOT23_M (SOT23, 3-Leads, Body 2.9x1.3 mm, Pitch 0.95 mm, IPC Low Density)
pins: 1 A1, 2 K2, 3 C

## BAR64-04W
designator D?
Dual Silicon PIN Diode, 100 mA IF Max, 2.1 Ohm rF, SOT323, Green; Manufacturer: Infineon; PartNumber: BAR64-04W; CT (max): 0.35 pF; Green: yes; IF (max): 100 mA; rF (typ): 2.1 Ohm; Trr (typ): 1,550 ns; DatasheetVersion: Jul-2011; PackageReference: SOT323; PackageDescription: 3-Pin Small Outline Transistor Package, 1.25 x 2 mm Body, 0.65 mm Pitch; Supplier 1: Mouser; Supplier Part Number 1: N/A; Supplier 2: Farnell; Supplier Part Number 2: 1095649RL; Configuration: Dual; Halogen-free: yes; Mounting Technology: Surface Mount; ComponentLink1Description: Manufacturer URL; ComponentLink1URL: http://www.infineon.com/; ComponentLink2Description: Datasheet; ComponentLink2URL: http://www.infineon.com/dgdl/bar64series.pdf?folderId=db3a304314dca3890114fea780a30a91&fileId=db3a304314dca3890114fef8f4ca0aca&location=en.Products.RF.RF_PIN_Diodes.Antenna_Switch.DATASHEET.bar64series.pdf; ComponentLink3Description: Package Specification; ComponentLink3URL: http://www.infineon.com/dgdl/SOT323-Package_Overview.pdf?folderId=db3a30431936bc4b0119533e1dcb3c92&fileId=db3a30431936bc4b011953495f283cb1
footprint INF-SOT323_N (SOT23, 3-Leads, Body 2x1.25 mm, Pitch 0.65 mm, IPC Medium Density)
footprint INF-SOT323_L (SOT23, 3-Leads, Body 2x1.25 mm, Pitch 0.65 mm, IPC High Density)
footprint INF-SOT323_M (SOT23, 3-Leads, Body 2x1.25 mm, Pitch 0.65 mm, IPC Low Density)
pins: 1 A1, 2 K2, 3 C

## BAR64-05
designator D?
Dual Silicon PIN Diode, 100 mA IF Max, 2.1 Ohm rF, SOT23, Green; Manufacturer: Infineon; PartNumber: BAR64-05; CT (max): 0.35 pF; Green: yes; IF (max): 100 mA; rF (typ): 2.1 Ohm; Trr (typ): 1,550 ns; DatasheetVersion: Jul-2011; PackageReference: SOT23; PackageDescription: 3-Pin Small Outline Transistor Package, 1.3 x 2.9 mm Body, 0.95 mm Pitch; Supplier 1: Mouser; Supplier Part Number 1: N/A; Configuration: Dual; Mounting Technology: Surface Mount; ComponentLink1Description: Manufacturer URL; ComponentLink1URL: http://www.infineon.com/; ComponentLink2Description: Datasheet; ComponentLink2URL: http://www.infineon.com/dgdl/bar64series.pdf?folderId=db3a304314dca3890114fea780a30a91&fileId=db3a304314dca3890114fef8f4ca0aca&location=en.Products.RF.RF_PIN_Diodes.Antenna_Switch.DATASHEET.bar64series.pdf; ComponentLink3Description: Package Specification; ComponentLink3URL: http://www.infineon.com/dgdl/SOT23-Package_Overview.pdf?folderId=db3a30431936bc4b0119532290053c66&fileId=db3a30431936bc4b0119533468123c85
footprint INF-SOT23_N (SOT23, 3-Leads, Body 2.9x1.3 mm, Pitch 0.95 mm, IPC Medium Density)
footprint INF-SOT23_L (SOT23, 3-Leads, Body 2.9x1.3 mm, Pitch 0.95 mm, IPC High Density)
footprint INF-SOT23_M (SOT23, 3-Leads, Body 2.9x1.3 mm, Pitch 0.95 mm, IPC Low Density)
pins: 1 A1, 2 A2, 3 K

## BAR64-05W
designator D?
Dual Silicon PIN Diode, 100 mA IF Max, 2.1 Ohm rF, SOT323, Green; Manufacturer: Infineon; PartNumber: BAR64-05W; CT (max): 0.35 pF; Green: yes; IF (max): 100 mA; rF (typ): 2.1 Ohm; Trr (typ): 1,550 ns; DatasheetVersion: Jul-2011; PackageReference: SOT323; PackageDescription: 3-Pin Small Outline Transistor Package, 1.25 x 2 mm Body, 0.65 mm Pitch; Supplier 1: Mouser; Supplier Part Number 1: N/A; Supplier 2: Farnell; Supplier Part Number 2: 1095652RL; Configuration: Dual; Halogen-free: yes; Mounting Technology: Surface Mount; ComponentLink1Description: Manufacturer URL; ComponentLink1URL: http://www.infineon.com/; ComponentLink2Description: Datasheet; ComponentLink2URL: http://www.infineon.com/dgdl/bar64series.pdf?folderId=db3a304314dca3890114fea780a30a91&fileId=db3a304314dca3890114fef8f4ca0aca&location=en.Products.RF.RF_PIN_Diodes.Antenna_Switch.DATASHEET.bar64series.pdf; ComponentLink3Description: Package Specification; ComponentLink3URL: http://www.infineon.com/dgdl/SOT323-Package_Overview.pdf?folderId=db3a30431936bc4b0119533e1dcb3c92&fileId=db3a30431936bc4b011953495f283cb1
footprint INF-SOT323_N (SOT23, 3-Leads, Body 2x1.25 mm, Pitch 0.65 mm, IPC Medium Density)
footprint INF-SOT323_L (SOT23, 3-Leads, Body 2x1.25 mm, Pitch 0.65 mm, IPC High Density)
footprint INF-SOT323_M (SOT23, 3-Leads, Body 2x1.25 mm, Pitch 0.65 mm, IPC Low Density)
pins: 1 A1, 2 A2, 3 K

## BAR64-06
designator D?
Dual Silicon PIN Diode, 100 mA IF Max, 2.1 Ohm rF, SOT23, Green; Manufacturer: Infineon; PartNumber: BAR64-06; CT (max): 0.35 pF; Green: yes; IF (max): 100 mA; rF (typ): 2.1 Ohm; Trr (typ): 1,550 ns; DatasheetVersion: Jul-2011; PackageReference: SOT23; PackageDescription: 3-Pin Small Outline Transistor Package, 1.3 x 2.9 mm Body, 0.95 mm Pitch; Supplier 1: Mouser; Supplier Part Number 1: N/A; Configuration: Dual; Mounting Technology: Surface Mount; ComponentLink1Description: Manufacturer URL; ComponentLink1URL: http://www.infineon.com/; ComponentLink2Description: Datasheet; ComponentLink2URL: http://www.infineon.com/dgdl/bar64series.pdf?folderId=db3a304314dca3890114fea780a30a91&fileId=db3a304314dca3890114fef8f4ca0aca&location=en.Products.RF.RF_PIN_Diodes.Antenna_Switch.DATASHEET.bar64series.pdf; ComponentLink3Description: Package Specification; ComponentLink3URL: http://www.infineon.com/dgdl/SOT23-Package_Overview.pdf?folderId=db3a30431936bc4b0119532290053c66&fileId=db3a30431936bc4b0119533468123c85
footprint INF-SOT23_N (SOT23, 3-Leads, Body 2.9x1.3 mm, Pitch 0.95 mm, IPC Medium Density)
footprint INF-SOT23_L (SOT23, 3-Leads, Body 2.9x1.3 mm, Pitch 0.95 mm, IPC High Density)
footprint INF-SOT23_M (SOT23, 3-Leads, Body 2.9x1.3 mm, Pitch 0.95 mm, IPC Low Density)
pins: 1 K1, 2 K2, 3 A

## BAR64-06W
designator D?
Dual Silicon PIN Diode, 100 mA IF Max, 2.1 Ohm rF, SOT323, Green; Manufacturer: Infineon; PartNumber: BAR64-06W; CT (max): 0.35 pF; Green: yes; IF (max): 100 mA; rF (typ): 2.1 Ohm; Trr (typ): 1,550 ns; DatasheetVersion: Jul-2011; PackageReference: SOT323; PackageDescription: 3-Pin Small Outline Transistor Package, 1.25 x 2 mm Body, 0.65 mm Pitch; Supplier 1: Mouser; Supplier Part Number 1: N/A; Configuration: Dual; Halogen-free: yes; Mounting Technology: Surface Mount; ComponentLink1Description: Manufacturer URL; ComponentLink1URL: http://www.infineon.com/; ComponentLink2Description: Datasheet; ComponentLink2URL: http://www.infineon.com/dgdl/bar64series.pdf?folderId=db3a304314dca3890114fea780a30a91&fileId=db3a304314dca3890114fef8f4ca0aca&location=en.Products.RF.RF_PIN_Diodes.Antenna_Switch.DATASHEET.bar64series.pdf; ComponentLink3Description: Package Specification; ComponentLink3URL: http://www.infineon.com/dgdl/SOT323-Package_Overview.pdf?folderId=db3a30431936bc4b0119533e1dcb3c92&fileId=db3a30431936bc4b011953495f283cb1
footprint INF-SOT323_N (SOT23, 3-Leads, Body 2x1.25 mm, Pitch 0.65 mm, IPC Medium Density)
footprint INF-SOT323_L (SOT23, 3-Leads, Body 2x1.25 mm, Pitch 0.65 mm, IPC High Density)
footprint INF-SOT323_M (SOT23, 3-Leads, Body 2x1.25 mm, Pitch 0.65 mm, IPC Low Density)
pins: 1 K1, 2 K2, 3 A

## BAR65-02V
designator D?
Single Silicon PIN Diode, 100 mA IF Max, 0.56 Ohm rF, SC79, Green; Manufacturer: Infineon; PartNumber: BAR65-02V; CT (max): 0.9 pF; Green: yes; IF (max): 100 mA; Trr (typ): 80 ns; DatasheetVersion: Jun-2011; PackageReference: SC79; PackageDescription: 2-Pin Semiconductor Package, 0.8 x 1.2 mm Body; Supplier 1: Mouser; Supplier Part Number 1: N/A; Configuration: Single; Halogen-free: yes; rF (typ): 0.56 Ohm; Mounting Technology: Surface Mount; ComponentLink1Description: Manufacturer URL; ComponentLink1URL: http://www.infineon.com/; ComponentLink2Description: Datasheet; ComponentLink2URL: http://www.infineon.com/dgdl/bar65series.pdf?folderId=db3a304314dca3890114fea780a30a91&fileId=db3a304314dca3890114ff1c81b50af0&location=en.Products.RF.RF_PIN_Diodes.Antenna_Switch.DATASHEET.bar65series.pdf; ComponentLink3Description: Package Specification; ComponentLink3URL: http://www.infineon.com/dgdl/SC79-Package_Overview.pdf?folderId=db3a30431936bc4b011951fbddb03b15&fileId=db3a30431936bc4b01195226fe583b41
footprint INF-SC79_V (SC79, 2-Leads, Body 1.2x0.8 mm)
pins: 1 K, 2 A

## BAR65-03W
designator D?
Single Silicon PIN Diode, 100 mA IF Max, 0.56 Ohm rF, SOD323, Green; Manufacturer: Infineon; PartNumber: BAR65-03W; CT (max): 0.9 pF; Green: yes; IF (max): 100 mA; Trr (typ): 80 ns; DatasheetVersion: Jun-2011; PackageReference: SOD323; PackageDescription: 2-Pin Small Outline Diode Package, 1.25 x 1.7 mm Body; Supplier 1: Mouser; Supplier Part Number 1: N/A; Configuration: Single; rF (typ): 0.56 Ohm; Mounting Technology: Surface Mount; ComponentLink1Description: Manufacturer URL; ComponentLink1URL: http://www.infineon.com/; ComponentLink2Description: Datasheet; ComponentLink2URL: http://www.infineon.com/dgdl/bar65series.pdf?folderId=db3a304314dca3890114fea780a30a91&fileId=db3a304314dca3890114ff1c81b50af0&location=en.Products.RF.RF_PIN_Diodes.Antenna_Switch.DATASHEET.bar65series.pdf; ComponentLink3Description: Package Specification; ComponentLink3URL: http://www.infineon.com/dgdl/SOD323-Package_Overview.pdf?folderId=db3a30431936bc4b011952aab84f3bbe&fileId=db3a30431936bc4b011952beed653be3
footprint INF-SOD323_V (SOD, 2-Leads, Body 1.7x1.25 mm)
pins: 1 K, 2 A

## BAR67-02V
designator D?
Single Silicon PIN Diode, 200 mA IF Max, 1 Ohm rF, SC79, Green; Manufacturer: Infineon; PartNumber: BAR67-02V; CT (max): 0.55 pF; Green: yes; IF (max): 200 mA; rF (typ): 1 Ohm; Trr (typ): 700 ns; DatasheetVersion: Jun-2011; PackageReference: SC79; PackageDescription: 2-Pin Semiconductor Package, 0.8 x 1.2 mm Body; Supplier 1: Mouser; Supplier Part Number 1: N/A; Supplier 2: Farnell; Supplier Part Number 2: 1095657RL; Configuration: Single; Halogen-free: yes; Mounting Technology: Surface Mount; ComponentLink1Description: Manufacturer URL; ComponentLink1URL: http://www.infineon.com/; ComponentLink2Description: Datasheet; ComponentLink2URL: http://www.infineon.com/dgdl/bar67series.pdf?folderId=db3a304314dca3890114fea780a30a91&fileId=db3a304314dca3890114ff1ecae60af1&location=en.Products.RF.RF_PIN_Diodes.Antenna_Switch.DATASHEET.bar67series.pdf; ComponentLink3Description: Package Specification; ComponentLink3URL: http://www.infineon.com/dgdl/SC79-Package_Overview.pdf?folderId=db3a30431936bc4b011951fbddb03b15&fileId=db3a30431936bc4b01195226fe583b41
footprint INF-SC79_V (SC79, 2-Leads, Body 1.2x0.8 mm)
pins: 1 K, 2 A

## BAR67-04
designator D?
Dual Silicon PIN Diode, 200 mA IF Max, 1.5 Ohm rF, SOT23, Green; Manufacturer: Infineon; PartNumber: BAR67-04; CT (max): 0.9 pF; Green: yes; IF (max): 200 mA; rF (typ): 1.5 Ohm; Trr (typ): 700 ns; DatasheetVersion: Jun-2011; PackageReference: SOT23; PackageDescription: 3-Pin Small Outline Transistor Package, 1.3 x 2.9 mm Body, 0.95 mm Pitch; Configuration: Dual; Mounting Technology: Surface Mount; ComponentLink1Description: Manufacturer URL; ComponentLink1URL: http://www.infineon.com/; ComponentLink2Description: Datasheet; ComponentLink2URL: http://www.infineon.com/dgdl/bar67series.pdf?folderId=db3a304314dca3890114fea780a30a91&fileId=db3a304314dca3890114ff1ecae60af1&location=en.Products.RF.RF_PIN_Diodes.Antenna_Switch.DATASHEET.bar67series.pdf; ComponentLink3Description: Package Specification; ComponentLink3URL: http://www.infineon.com/dgdl/SOT23-Package_Overview.pdf?folderId=db3a30431936bc4b0119532290053c66&fileId=db3a30431936bc4b0119533468123c85
footprint INF-SOT23_N (SOT23, 3-Leads, Body 2.9x1.3 mm, Pitch 0.95 mm, IPC Medium Density)
footprint INF-SOT23_L (SOT23, 3-Leads, Body 2.9x1.3 mm, Pitch 0.95 mm, IPC High Density)
footprint INF-SOT23_M (SOT23, 3-Leads, Body 2.9x1.3 mm, Pitch 0.95 mm, IPC Low Density)
pins: 1 A1, 2 K2, 3 C

## BAR81W
designator D?
Single Silicon RF Switching Diode, 100 mA IF Max, 0.7 Ohm rF, SOT343, Green; Manufacturer: Infineon; PartNumber: BAR81W; CT (max): 1 pF; Green: yes; IF (max): 100 mA; rF (typ): 0.7 Ohm; Trr (typ): 80 ns; DatasheetVersion: Jun-2011; PackageReference: SOT343; PackageDescription: 4-Pin Small Outline Transistor Package, 1.25 x 2 mm Body; Supplier 1: Mouser; Supplier Part Number 1: N/A; Supplier 2: Farnell; Supplier Part Number 2: 1095658; Supplier 3: Farnell; Supplier Part Number 3: 1095658RL; Configuration: Single; Halogen-free: yes; Mounting Technology: Surface Mount; ComponentLink1Description: Manufacturer URL; ComponentLink1URL: http://www.infineon.com/; ComponentLink2Description: Datasheet; ComponentLink2URL: http://www.infineon.com/dgdl/bar81series.pdf?folderId=db3a304314dca3890114fea780a30a91&fileId=db3a304314dca3890114ff203eb70af2&location=en.Products.RF.RF_PIN_Diodes.Antenna_Switch.DATASHEET.bar81series.pdf; ComponentLink3Description: Package Specification; ComponentLink3URL: http://www.infineon.com/dgdl/SOT343-Package_Overview.pdf?folderId=db3a30431936bc4b0119535155343cba&fileId=db3a30431936bc4b0119535a9f393cd3
footprint INF-SOT343_V (SOT343, 4-Leads, Body 2x1.25 mm)
pins: 1 A, 2 K, 3 A, 4 K

## BAR88-02LRH
designator D?
Single Silicon PIN Diode, 100 mA IF Max, 0.6 Ohm rF, TSLP-2-7, Green; Manufacturer: Infineon; PartNumber: BAR88-02LRH; CT (max): 0.4 pF; Green: yes; IF (max): 100 mA; rF (typ): 0.6 Ohm; Trr (typ): 500 ns; DatasheetVersion: Jun-2011; PackageReference: TSLP-2-7; PackageDescription: 2-Pin Thin Small Leadless Package, 0.6 x 1 mm Body; Supplier 1: Mouser; Supplier Part Number 1: N/A; Configuration: Single; Halogen-free: yes; Mounting Technology: Surface Mount; ComponentLink1Description: Manufacturer URL; ComponentLink1URL: http://www.infineon.com/; ComponentLink2Description: Datasheet; ComponentLink2URL: http://www.infineon.com/dgdl/bar88series.pdf?folderId=db3a304314dca3890114fea780a30a91&fileId=db3a304314dca3890114ff2286b00afa&location=en.Products.RF.RF_PIN_Diodes.Antenna_Switch.DATASHEET.bar88series.pdf; ComponentLink3Description: Package Specification; ComponentLink3URL: http://www.infineon.com/dgdl/TSLP-2-7%2C-17-Package_Overview.pdf?folderId=db3a30431936bc4b011956dca02837a0&fileId=db3a30431936bc4b01195723a67f37c1
footprint INF-TSLP-2-7_N (Chip2PinSM, 2-Leads, Body 1x0.6 mm, Pitch 0.65 mm, IPC Medium Density)
footprint INF-TSLP-2-7_L (Chip2PinSM, 2-Leads, Body 1x0.6 mm, Pitch 0.65 mm, IPC High Density)
footprint INF-TSLP-2-7_M (Chip2PinSM, 2-Leads, Body 1x0.6 mm, Pitch 0.65 mm, IPC Low Density)
pins: 1 K, 2 A

## BAR88-02V
designator D?
Single Silicon PIN Diode, 100 mA IF Max, 0.6 Ohm rF, SC79, Green; Manufacturer: Infineon; PartNumber: BAR88-02V; CT (max): 0.4 pF; Green: yes; IF (max): 100 mA; rF (typ): 0.6 Ohm; Trr (typ): 500 ns; DatasheetVersion: Jun-2011; PackageReference: SC79; PackageDescription: 2-Pin Semiconductor Package, 0.8 x 1.2 mm Body; Supplier 1: Mouser; Supplier Part Number 1: N/A; Configuration: Single; Halogen-free: yes; Mounting Technology: Surface Mount; ComponentLink1Description: Manufacturer URL; ComponentLink1URL: http://www.infineon.com/; ComponentLink2Description: Datasheet; ComponentLink2URL: http://www.infineon.com/dgdl/bar88series.pdf?folderId=db3a304314dca3890114fea780a30a91&fileId=db3a304314dca3890114ff2286b00afa&location=en.Products.RF.RF_PIN_Diodes.Antenna_Switch.DATASHEET.bar88series.pdf; ComponentLink3Description: Package Specification; ComponentLink3URL: http://www.infineon.com/dgdl/SC79-Package_Overview.pdf?folderId=db3a30431936bc4b011951fbddb03b15&fileId=db3a30431936bc4b01195226fe583b41
footprint INF-SC79_V (SC79, 2-Leads, Body 1.2x0.8 mm)
pins: 1 K, 2 A

## BAR89-02LRH
designator D?
Single Silicon PIN Diode, 100 mA IF Max, 0.8 Ohm rF, TSLP-2-7, Green; Manufacturer: Infineon; PartNumber: BAR89-02LRH; CT (max): 0.35 pF; Green: yes; IF (max): 100 mA; rF (typ): 0.8 Ohm; Trr (typ): 800 ns; DatasheetVersion: Aug-2012; PackageReference: TSLP-2-7; PackageDescription: 2-Pin Thin Small Leadless Package, 0.6 x 1 mm Body; Supplier 1: Mouser; Supplier Part Number 1: N/A; Configuration: Single; Halogen-free: yes; Mounting Technology: Surface Mount; ComponentLink1Description: Manufacturer URL; ComponentLink1URL: http://www.infineon.com/; ComponentLink2Description: Datasheet; ComponentLink2URL: http://www.infineon.com/dgdl/bar89series.pdf?folderId=db3a304314dca3890114fea780a30a91&fileId=db3a304314dca3890114ff2f84ae0b09&location=en.Products.RF.RF_PIN_Diodes.Antenna_Switch.DATASHEET.bar89series.pdf; ComponentLink3Description: Package Specification; ComponentLink3URL: http://www.infineon.com/dgdl/TSLP-2-7%2C-17-Package_Overview.pdf?folderId=db3a30431936bc4b011956dca02837a0&fileId=db3a30431936bc4b01195723a67f37c1
footprint INF-TSLP-2-7_N (Chip2PinSM, 2-Leads, Body 1x0.6 mm, Pitch 0.65 mm, IPC Medium Density)
footprint INF-TSLP-2-7_L (Chip2PinSM, 2-Leads, Body 1x0.6 mm, Pitch 0.65 mm, IPC High Density)
footprint INF-TSLP-2-7_M (Chip2PinSM, 2-Leads, Body 1x0.6 mm, Pitch 0.65 mm, IPC Low Density)
pins: 1 K, 2 A